# EAGLE library part LC4064ZE_XXMN144 (library lattice_ispMACH4000ZE)
ispMACH 4064ZE csBGA144 Lattice Semiconductor Corporation - ispMACH 4000ZE Ultra Low Power, Low Cost CPLD Family Generated using Lattice BSDL models: http://www.latticesemi.com/dynamic/index.cfm?fuseaction=view_documents&document_type=36&sloc=01-01-02-01&source=sidebar
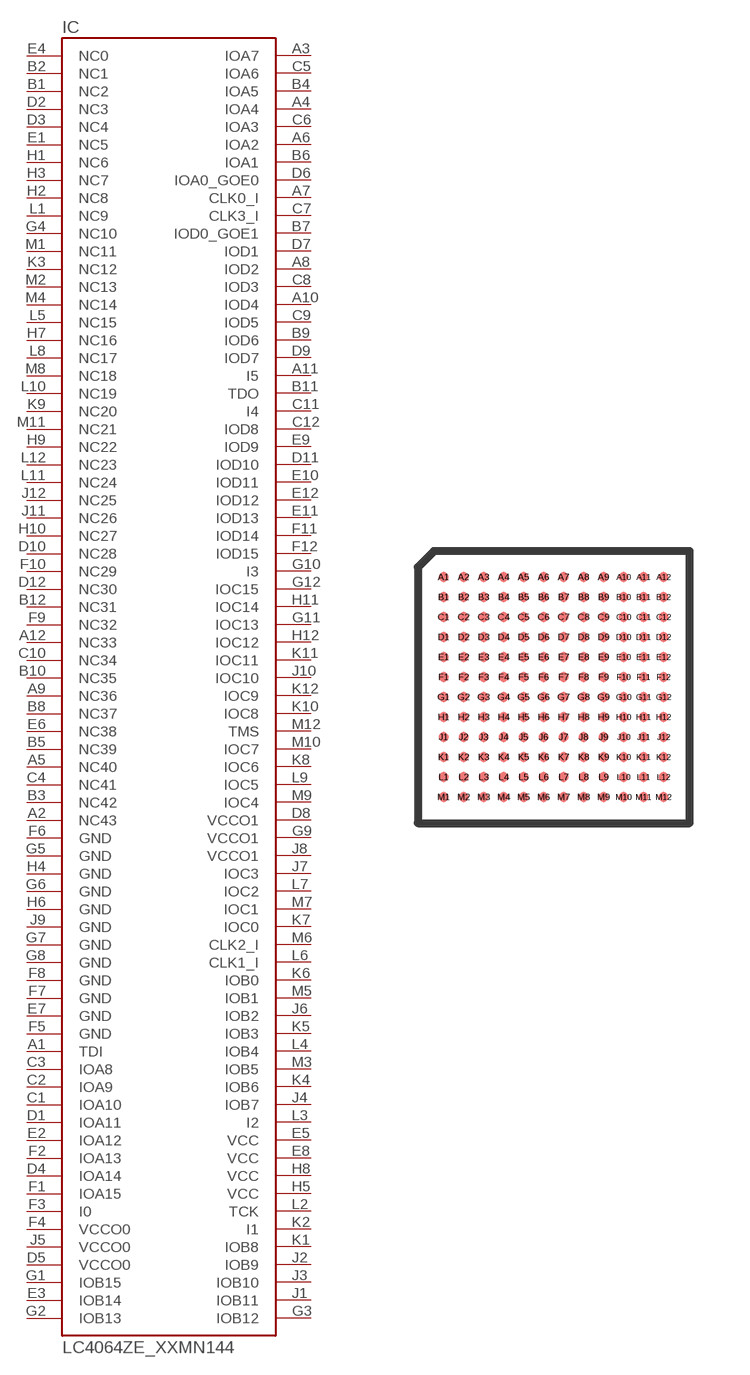
[diagram p9: symbol with the pads of CSBGA144; footprint CSBGA144]

Designator prefix IC

## LC4064ZE_XXMN144  [CSBGA144]
A1  TDI  in
A2  NC43  pas
A3  IOA7
A4  IOA4
A5  NC40  pas
A6  IOA2
A7  CLK0_I  in
A8  IOD2
A9  NC36  pas
A10  IOD4
A11  I5  in
A12  NC33  pas
B1  NC2  pas
B2  NC1  pas
B3  NC42  pas
B4  IOA5
B5  NC39  pas
B6  IOA1
B7  IOD0_GOE1
B8  NC37  pas
B9  IOD6
B10  NC35  pas
B11  TDO  out
B12  NC31  pas
C1  IOA10
C2  IOA9
C3  IOA8
C4  NC41  pas
C5  IOA6
C6  IOA3
C7  CLK3_I  in
C8  IOD3
C9  IOD5
C10  NC34  pas
C11  I4  in
C12  IOD8
D1  IOA11
D2  NC3  pas
D3  NC4  pas
D4  IOA14
D5  VCCO0  pwr
D6  IOA0_GOE0
D7  IOD1
D8  VCCO1  pwr
D9  IOD7
D10  NC28  pas
D11  IOD10
D12  NC30  pas
E1  NC5  pas
E2  IOA12
E3  IOB14
E4  NC0  pas
E5  VCC  pwr
E6  NC38  pas
E7  GND  pwr
E8  VCC  pwr
E9  IOD9
E10  IOD11
E11  IOD13
E12  IOD12
F1  IOA15
F2  IOA13
F3  I0  in
F4  VCCO0  pwr
F5  GND  pwr
F6  GND  pwr
F7  GND  pwr
F8  GND  pwr
F9  NC32  pas
F10  NC29  pas
F11  IOD14
F12  IOD15
G1  IOB15
G2  IOB13
G3  IOB12
G4  NC10  pas
G5  GND  pwr
G6  GND  pwr
G7  GND  pwr
G8  GND  pwr
G9  VCCO1  pwr
G10  I3  in
G11  IOC13
G12  IOC15
H1  NC6  pas
H2  NC8  pas
H3  NC7  pas
H4  GND  pwr
H5  VCC  pwr
H6  GND  pwr
H7  NC16  pas
H8  VCC  pwr
H9  NC22  pas
H10  NC27  pas
H11  IOC14
H12  IOC12
J1  IOB11
J2  IOB9
J3  IOB10
J4  IOB7
J5  VCCO0  pwr
J6  IOB2
J7  IOC3
J8  VCCO1  pwr
J9  GND  pwr
J10  IOC10
J11  NC26  pas
J12  NC25  pas
K1  IOB8
K2  I1  in
K3  NC12  pas
K4  IOB6
K5  IOB3
K6  IOB0
K7  IOC0
K8  IOC6
K9  NC20  pas
K10  IOC8
K11  IOC11
K12  IOC9
L1  NC9  pas
L2  TCK  in
L3  I2  in
L4  IOB4
L5  NC15  pas
L6  CLK1_I  in
L7  IOC2
L8  NC17  pas
L9  IOC5
L10  NC19  pas
L11  NC24  pas
L12  NC23  pas
M1  NC11  pas
M2  NC13  pas
M3  IOB5
M4  NC14  pas
M5  IOB1
M6  CLK2_I  in
M7  IOC1
M8  NC18  pas
M9  IOC4
M10  IOC7
M11  NC21  pas
M12  TMS  in

## Footprint CSBGA144 (pad centres in mm)
csBGA - 144 http://www.latticesemi.com/lit/docs/package/pkg.pdf
smd 0.25 x 0.25: A1 -2.75,2.75; A2 -2.25,2.75; A3 -1.75,2.75; A4 -1.25,2.75; A5 -0.75,2.75; A6 -0.25,2.75; A7 0.25,2.75; A8 0.75,2.75; A9 1.25,2.75; A10 1.75,2.75; A11 2.25,2.75; A12 2.75,2.75; B1 -2.75,2.25; B2 -2.25,2.25; B3 -1.75,2.25; B4 -1.25,2.25; B5 -0.75,2.25; B6 -0.25,2.25; B7 0.25,2.25; B8 0.75,2.25; B9 1.25,2.25; B10 1.75,2.25; B11 2.25,2.25; B12 2.75,2.25; C1 -2.75,1.75; C2 -2.25,1.75; C3 -1.75,1.75; C4 -1.25,1.75; C5 -0.75,1.75; C6 -0.25,1.75; C7 0.25,1.75; C8 0.75,1.75; C9 1.25,1.75; C10 1.75,1.75; C11 2.25,1.75; C12 2.75,1.75; D1 -2.75,1.25; D2 -2.25,1.25; D3 -1.75,1.25; D4 -1.25,1.25; D5 -0.75,1.25; D6 -0.25,1.25; D7 0.25,1.25; D8 0.75,1.25; D9 1.25,1.25; D10 1.75,1.25; D11 2.25,1.25; D12 2.75,1.25; E1 -2.75,0.75; E2 -2.25,0.75; E3 -1.75,0.75; E4 -1.25,0.75; E5 -0.75,0.75; E6 -0.25,0.75; E7 0.25,0.75; E8 0.75,0.75; E9 1.25,0.75; E10 1.75,0.75; E11 2.25,0.75; E12 2.75,0.75; F1 -2.75,0.25; F2 -2.25,0.25; F3 -1.75,0.25; F4 -1.25,0.25; F5 -0.75,0.25; F6 -0.25,0.25; F7 0.25,0.25; F8 0.75,0.25; F9 1.25,0.25; F10 1.75,0.25; F11 2.25,0.25; F12 2.75,0.25; G1 -2.75,-0.25; G2 -2.25,-0.25; G3 -1.75,-0.25; G4 -1.25,-0.25; G5 -0.75,-0.25; G6 -0.25,-0.25; G7 0.25,-0.25; G8 0.75,-0.25; G9 1.25,-0.25; G10 1.75,-0.25; G11 2.25,-0.25; G12 2.75,-0.25; H1 -2.75,-0.75; H2 -2.25,-0.75; H3 -1.75,-0.75; H4 -1.25,-0.75; H5 -0.75,-0.75; H6 -0.25,-0.75; H7 0.25,-0.75; H8 0.75,-0.75; H9 1.25,-0.75; H10 1.75,-0.75; H11 2.25,-0.75; H12 2.75,-0.75; J1 -2.75,-1.25; J2 -2.25,-1.25; J3 -1.75,-1.25; J4 -1.25,-1.25; J5 -0.75,-1.25; J6 -0.25,-1.25; J7 0.25,-1.25; J8 0.75,-1.25; J9 1.25,-1.25; J10 1.75,-1.25; J11 2.25,-1.25; J12 2.75,-1.25; K1 -2.75,-1.75; K2 -2.25,-1.75; K3 -1.75,-1.75; K4 -1.25,-1.75; K5 -0.75,-1.75; K6 -0.25,-1.75; K7 0.25,-1.75; K8 0.75,-1.75; K9 1.25,-1.75; K10 1.75,-1.75; K11 2.25,-1.75; K12 2.75,-1.75; L1 -2.75,-2.25; L2 -2.25,-2.25; L3 -1.75,-2.25; L4 -1.25,-2.25; L5 -0.75,-2.25; L6 -0.25,-2.25; L7 0.25,-2.25; L8 0.75,-2.25; L9 1.25,-2.25; L10 1.75,-2.25; L11 2.25,-2.25; L12 2.75,-2.25; M1 -2.75,-2.75; M2 -2.25,-2.75; M3 -1.75,-2.75; M4 -1.25,-2.75; M5 -0.75,-2.75; M6 -0.25,-2.75; M7 0.25,-2.75; M8 0.75,-2.75; M9 1.25,-2.75; M10 1.75,-2.75; M11 2.25,-2.75; M12 2.75,-2.75